# EAGLE library part IS42S32800D-7TLI (library ISSI_By_element14_Batch_1)
DRAM
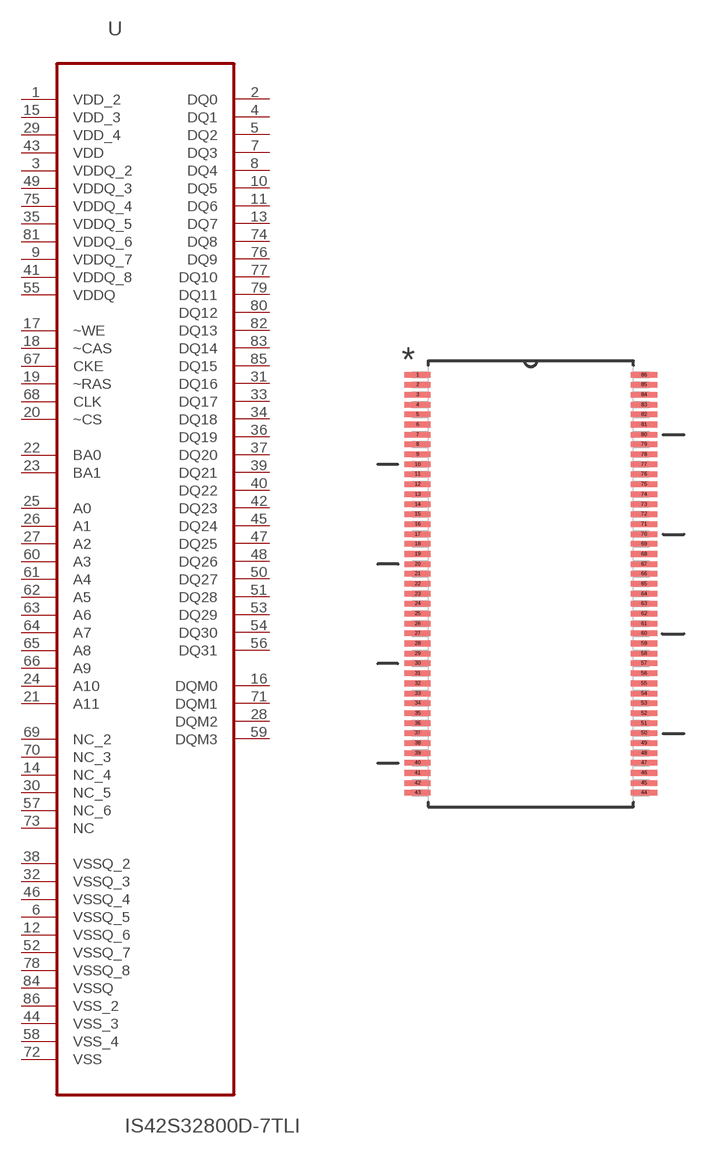
[diagram p0: symbol with the pads of SOP50P1176X120-86N; footprint SOP50P1176X120-86N]

Designator prefix U

## IS42S32800D-7TLI (MPN: IS42S32800D-7TLI; OC_FARNELL: 1869964; OC_NEWARK: 32T7404; PACKAGE: TSOP-86; SUPPLIER: INTEGRATED SILICON SOLUTION (ISSI))  [SOP50P1176X120-86N]
1  VDD_2  pwr
2  DQ0
3  VDDQ_2  pwr
4  DQ1
5  DQ2
6  VSSQ_5  pwr
7  DQ3
8  DQ4
9  VDDQ_7  pwr
10  DQ5
11  DQ6
12  VSSQ_6  pwr
13  DQ7
14  NC_4  nc
15  VDD_3  pwr
16  DQM0
17  ~WE  in
18  ~CAS  in
19  ~RAS  in
20  ~CS  in
21  A11  in
22  BA0  in
23  BA1  in
24  A10  in
25  A0  in
26  A1  in
27  A2  in
28  DQM2
29  VDD_4  pwr
30  NC_5  nc
31  DQ16
32  VSSQ_3  pwr
33  DQ17
34  DQ18
35  VDDQ_5  pwr
36  DQ19
37  DQ20
38  VSSQ_2  pwr
39  DQ21
40  DQ22
41  VDDQ_8  pwr
42  DQ23
43  VDD  pwr
44  VSS_3  pwr
45  DQ24
46  VSSQ_4  pwr
47  DQ25
48  DQ26
49  VDDQ_3  pwr
50  DQ27
51  DQ28
52  VSSQ_7  pwr
53  DQ29
54  DQ30
55  VDDQ  pwr
56  DQ31
57  NC_6  nc
58  VSS_4  pwr
59  DQM3
60  A3  in
61  A4  in
62  A5  in
63  A6  in
64  A7  in
65  A8  in
66  A9  in
67  CKE  in
68  CLK  in
69  NC_2  nc
70  NC_3  nc
71  DQM1
72  VSS  pwr
73  NC  nc
74  DQ8
75  VDDQ_4  pwr
76  DQ9
77  DQ10
78  VSSQ_8  pwr
79  DQ11
80  DQ12
81  VDDQ_6  pwr
82  DQ13
83  DQ14
84  VSSQ  pwr
85  DQ15
86  VSS_2  pwr

## Footprint SOP50P1176X120-86N (pad centres in mm)
smd 1.321 x 0.279: 1 -5.69,10.49; 2 -5.69,10.008; 3 -5.69,9.5; 4 -5.69,8.992; 5 -5.69,8.509; 6 -5.69,8.001; 7 -5.69,7.493; 8 -5.69,7.01; 9 -5.69,6.502; 10 -5.69,5.994; 11 -5.69,5.512; 12 -5.69,5.004; 13 -5.69,4.496; 14 -5.69,3.988; 15 -5.69,3.505; 16 -5.69,2.997; 17 -5.69,2.489; 18 -5.69,2.007; 19 -5.69,1.499; 20 -5.69,0.991; 21 -5.69,0.508; 22 -5.69,0; 23 -5.69,-0.508; 24 -5.69,-0.991; 25 -5.69,-1.499; 26 -5.69,-2.007; 27 -5.69,-2.489; 28 -5.69,-2.997; 29 -5.69,-3.505; 30 -5.69,-3.988; 31 -5.69,-4.496; 32 -5.69,-5.004; 33 -5.69,-5.512; 34 -5.69,-5.994; 35 -5.69,-6.502; 36 -5.69,-7.01; 37 -5.69,-7.493; 38 -5.69,-8.001; 39 -5.69,-8.509; 40 -5.69,-8.992; 41 -5.69,-9.5; 42 -5.69,-10.008; 43 -5.69,-10.49; 44 5.69,-10.49; 45 5.69,-10.008; 46 5.69,-9.5; 47 5.69,-8.992; 48 5.69,-8.509; 49 5.69,-8.001; 50 5.69,-7.493; 51 5.69,-7.01; 52 5.69,-6.502; 53 5.69,-5.994; 54 5.69,-5.512; 55 5.69,-5.004; 56 5.69,-4.496; 57 5.69,-3.988; 58 5.69,-3.505; 59 5.69,-2.997; 60 5.69,-2.489; 61 5.69,-2.007; 62 5.69,-1.499; 63 5.69,-0.991; 64 5.69,-0.508; 65 5.69,0; 66 5.69,0.508; 67 5.69,0.991; 68 5.69,1.499; 69 5.69,2.007; 70 5.69,2.489; 71 5.69,2.997; 72 5.69,3.505; 73 5.69,3.988; 74 5.69,4.496; 75 5.69,5.004; 76 5.69,5.512; 77 5.69,5.994; 78 5.69,6.502; 79 5.69,7.01; 80 5.69,7.493; 81 5.69,8.001; 82 5.69,8.509; 83 5.69,8.992; 84 5.69,9.5; 85 5.69,10.008; 86 5.69,10.49